# Altium schematic symbol library SCH - CONNECTORS - MOLEX 47053-1000.SCHLIB: 2 symbols
Pins are listed as number, name and electrical type; pins without a type are passive.

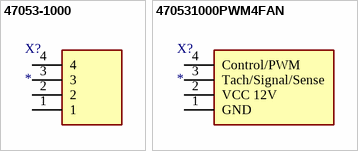
[diagram p0: symbols 47053-1000 to 470531000PWM4FAN]

## 47053-1000
designator X?
Connector; Manufacturer_Name: Molex; Manufacturer_Part_Number: 47053-1000; Datasheet Link: http://www.molex.com/pdm_docs/sd/470531000_sd.pdf; Height: 8mm; Mouser Part Number: 538-47053-1000; Mouser Price/Stock: https://www.mouser.co.uk/ProductDetail/Molex/47053-1000?qs=ph4zPCVRuvqoDX7hrEhxNA%3D%3D
pins: 1, 2, 3, 4

## 470531000PWM4FAN
designator X?
Connector; Manufacturer_Name: Molex; Manufacturer_Part_Number: 47053-1000; Datasheet Link: http://www.molex.com/pdm_docs/sd/470531000_sd.pdf; Height: 8mm; Mouser Part Number: 538-47053-1000; Mouser Price/Stock: https://www.mouser.co.uk/ProductDetail/Molex/47053-1000?qs=ph4zPCVRuvqoDX7hrEhxNA%3D%3D
pins: 1 GND, 2 VCC 12V, 3 Tach/Signal/Sense, 4 Control/PWM